# Altium footprint library Connector.PcbLib: 159 footprints (part 10 of 10)
Each footprint in its own frame and in the unit in brackets; x right, y up, seen from the top. Pads: shape width x height; smd on the part's side, far side on the other; paste and mask are expansions set on the pad; w line width, h text height; cw(c..) or ccw(c..) is an arc to the next point about the centre after c.
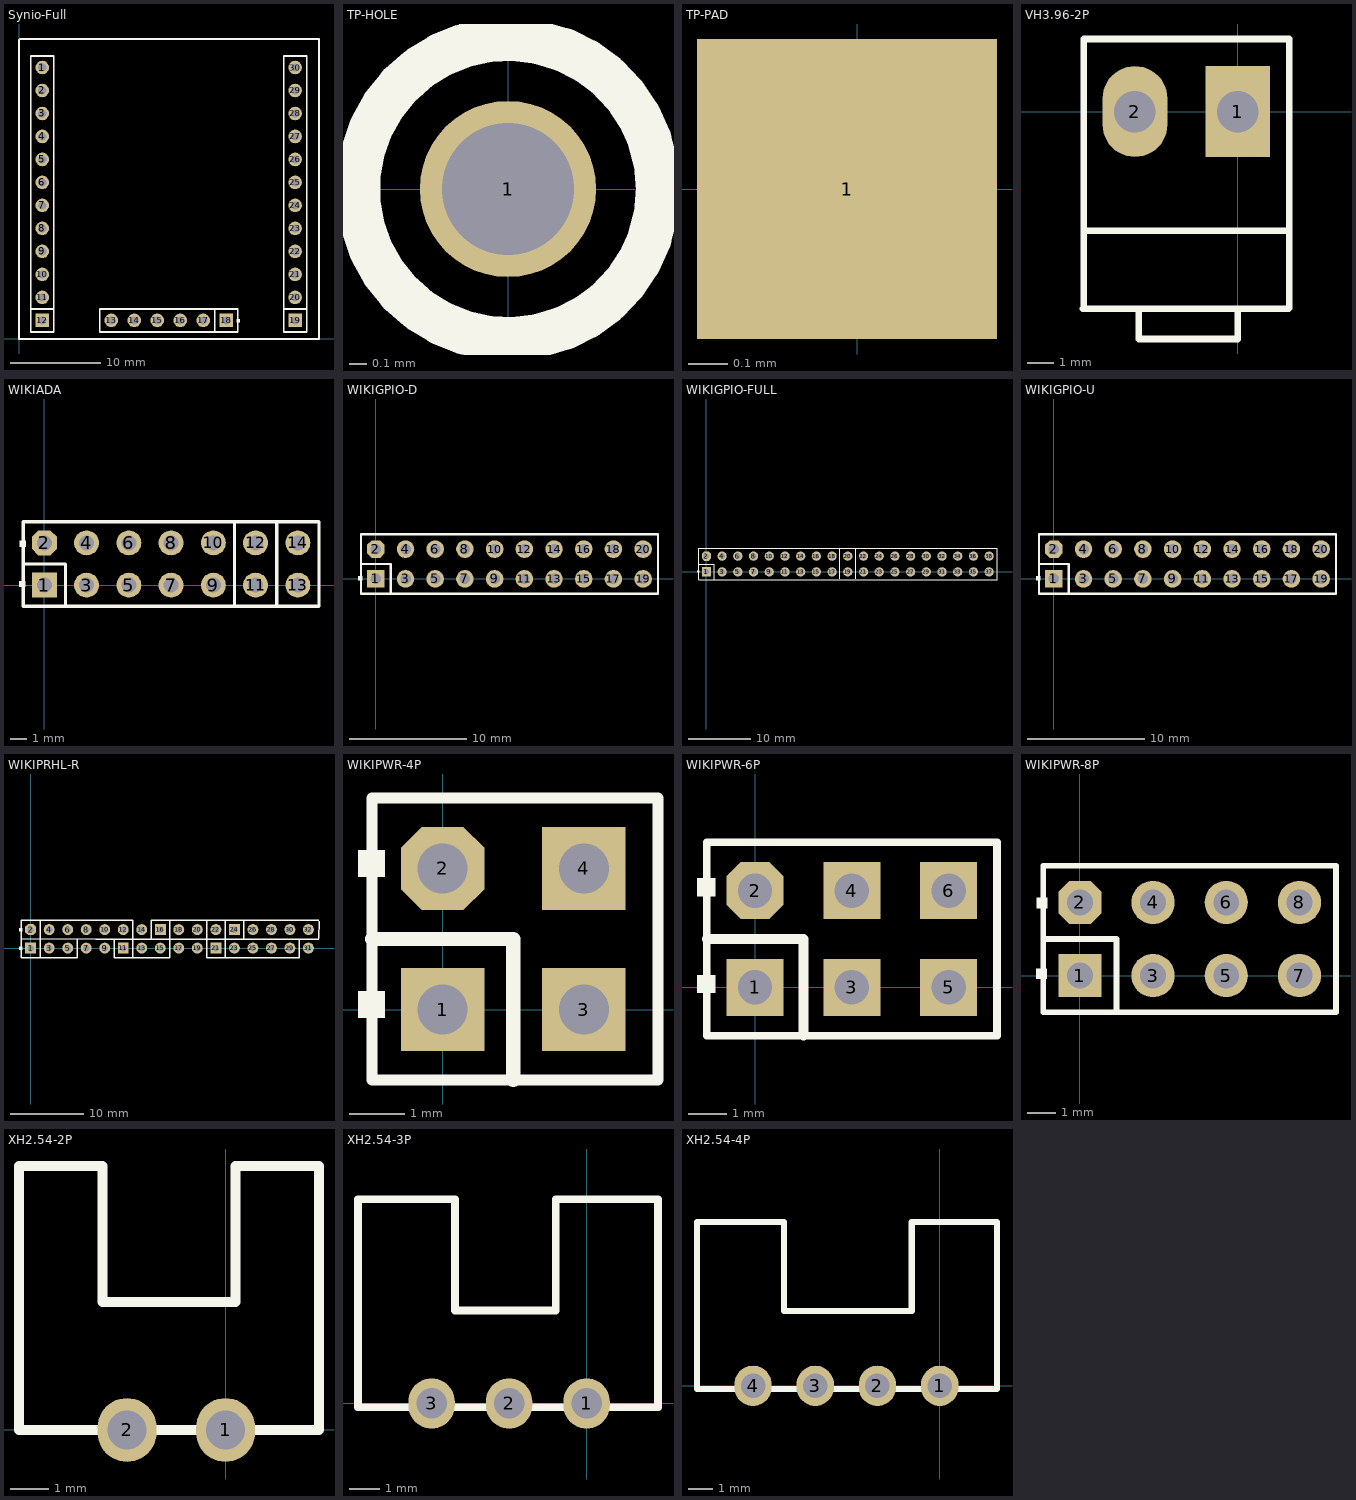
[diagram p9: the footprints below, top view; thin cyan lines are the x and y axes]

## Synio-Full [mm]
pads (30):
  round 1.5 hole 0.9: 1(2.575,29.997) 2(2.575,27.457) 3(2.575,24.917) 4(2.575,22.377) 5(2.575,19.837) 6(2.575,17.297) 7(2.575,14.757) 8(2.575,12.217) 9(2.575,9.677) 10(2.575,7.137) 11(2.575,4.597) 13(10.195,2.057) 14(12.735,2.057) 15(15.275,2.057) 16(17.815,2.057) 17(20.355,2.057) 20(30.515,4.597) 21(30.515,7.137) 22(30.515,9.677) 23(30.515,12.217) 24(30.515,14.757) 25(30.515,17.297) 26(30.515,19.837) 27(30.515,22.377) 28(30.515,24.917) 29(30.515,27.457) 30(30.515,29.997)
  rect 1.5x1.5 hole 0.9: 12(2.575,2.057) 18(22.895,2.057) 19(30.515,2.057)
Top Overlay:
  region: 24.419,2.184 24.038,2.184 24.038,1.803 24.419,1.803
  lines w0.2: 1.305,3.327 3.845,3.327 ; 1.305,31.262 3.845,31.262 ; 1.305,31.267 1.305,2.692 1.305,0.787 3.845,0.787 3.845,31.267 ; 21.625,0.787 21.625,3.327 ; 29.245,3.327 31.785,3.327 ; 29.245,31.262 31.785,31.262 ; 29.245,31.267 29.245,2.692 29.245,0.787 31.785,0.787 31.785,31.267 ; 8.925,0.787 24.165,0.787 24.165,3.327 8.925,3.327 8.925,0.787
  lines w0.254: 0,0 0,33.02 ; 0.127,0 33.147,0 33.147,33.02 ; 0.127,33.147 33.147,33.147
3D body: height 8.51, standoff -3.68, extent 29.071,28.71 31.991,31.25
3D body: height 8.51, standoff -3.68, extent 29.071,26.17 31.991,28.71
3D body: height 8.51, standoff -3.68, extent 29.071,0.77 31.991,3.31
3D body: height 8.51, standoff -3.68, extent 29.071,3.31 31.991,5.85
3D body: height 8.51, standoff -3.68, extent 29.071,10.93 31.991,13.47
3D body: height 8.51, standoff -3.68, extent 29.071,8.39 31.991,10.93
3D body: height 8.51, standoff -3.68, extent 29.071,5.85 31.991,8.39
3D body: height 8.51, standoff -3.68, extent 29.071,13.47 31.991,16.01
3D body: height 8.51, standoff -3.68, extent 29.071,16.01 31.991,18.55
3D body: height 8.51, standoff -3.68, extent 29.071,23.63 31.991,26.17
3D body: height 8.51, standoff -3.68, extent 29.071,21.09 31.991,23.63
3D body: height 8.51, standoff -3.68, extent 29.071,18.55 31.991,21.09
3D body: height 8.51, standoff -3.68, extent 14.052,0.638 16.592,3.558
3D body: height 8.51, standoff -3.68, extent 11.512,0.638 14.052,3.558
3D body: height 8.51, standoff -3.68, extent 8.972,0.638 11.512,3.558
3D body: height 8.51, standoff -3.68, extent 16.592,0.638 19.132,3.558
3D body: height 8.51, standoff -3.68, extent 19.132,0.638 21.672,3.558
3D body: height 8.51, standoff -3.68, extent 21.672,0.638 24.212,3.558
3D body: height 8.51, standoff -3.68, extent 1.131,18.55 4.051,21.09
3D body: height 8.51, standoff -3.68, extent 1.131,21.09 4.051,23.63
3D body: height 8.51, standoff -3.68, extent 1.131,23.63 4.051,26.17
3D body: height 8.51, standoff -3.68, extent 1.131,16.01 4.051,18.55
3D body: height 8.51, standoff -3.68, extent 1.131,13.47 4.051,16.01
3D body: height 8.51, standoff -3.68, extent 1.131,5.85 4.051,8.39
3D body: height 8.51, standoff -3.68, extent 1.131,8.39 4.051,10.93
3D body: height 8.51, standoff -3.68, extent 1.131,10.93 4.051,13.47
3D body: height 8.51, standoff -3.68, extent 1.131,3.31 4.051,5.85
3D body: height 8.51, standoff -3.68, extent 1.131,0.77 4.051,3.31
3D body: height 8.51, standoff -3.68, extent 1.131,26.17 4.051,28.71
3D body: height 8.51, standoff -3.68, extent 1.131,28.71 4.051,31.25

## TP-HOLE [mil] "TEST POINT"
height 511.81
pads (1):
  round 40 hole 30: 1(0,0)
Top Overlay:
  circle w10: c0,0 r34.06

## TP-PAD [mil] "TEST POINT"
pads (1):
  rect 30x30 smd: 1(-1,0)

## VH3.96-2P [mm]
pads (2):
  rect 2.5x3.5 hole 1.6: 1(0,0)
  oval 2.5x3.5 hole 1.6: 2(-3.96,0)
Top Overlay:
  lines w0.2: -5.969,-7.59 -5.94,-7.561
  lines w0.254: -5.969,-7.59 1.958,-7.59 1.98,-7.568 1.98,-4.191 ; -5.94,-7.561 -5.94,-4.318 ; -3.81,-7.62 -3.81,-8.763 0,-8.763 0,-7.62 ; 1.905,-4.589 -5.94,-4.589 -5.94,2.794 1.905,2.794 ; 1.98,-4.589 1.98,2.794

## WIKIADA [mm] "Connector; Header; 7x2 Position"
pads (14):
  rect 1.5x1.5 hole 0.9: 1(0,0)
  oct 1.5x1.5 hole 0.9: 2(0,2.54)
  round 1.5 hole 0.9: 3(2.54,0) 4(2.54,2.54) 5(5.08,0) 6(5.08,2.54) 7(7.62,0) 8(7.62,2.54) 9(10.16,0) 10(10.16,2.54) 11(12.7,0) 12(12.7,2.54) 13(15.24,0) 14(15.24,2.54)
Top Overlay:
  rectangle: -1.524,-0.127 -1.143,0.254
  rectangle: -1.499,2.298 -1.118,2.679
  lines w0.2: -1.27,1.27 1.27,1.27 1.27,-1.27 ; -1.27,-1.27 16.51,-1.27 16.51,3.81 -1.27,3.81 -1.27,-1.27
  lines w0.203: 11.43,-1.27 11.43,3.81 ; 13.97,-1.27 13.97,3.81
3D body: height 8.51, standoff -3.68, extent 13.968,1.149 16.508,4.069
3D body: height 8.51, standoff -3.68, extent 11.428,1.149 13.968,4.069
3D body: height 8.51, standoff -3.68, extent 8.888,1.149 11.428,4.069
3D body: height 8.51, standoff -3.68, extent 1.268,1.149 3.808,4.069
3D body: height 8.51, standoff -3.68, extent 3.808,1.149 6.348,4.069
3D body: height 8.51, standoff -3.68, extent 6.348,1.149 8.888,4.069
3D body: height 8.51, standoff -3.68, extent -1.272,1.149 1.268,4.069
3D body: height 8.51, standoff -3.68, extent 13.968,-1.551 16.508,1.369
3D body: height 8.51, standoff -3.68, extent 11.428,-1.551 13.968,1.369
3D body: height 8.51, standoff -3.68, extent 8.888,-1.551 11.428,1.369
3D body: height 8.51, standoff -3.68, extent 1.268,-1.551 3.808,1.369
3D body: height 8.51, standoff -3.68, extent 3.808,-1.551 6.348,1.369
3D body: height 8.51, standoff -3.68, extent 6.348,-1.551 8.888,1.369
3D body: height 8.51, standoff -3.68, extent -1.272,-1.551 1.268,1.369

## WIKIGPIO-D [mm] "Connector; Header; 9x2 Position"
pads (20):
  rect 1.5x1.5 hole 0.9: 1(0,0)
  oct 1.5x1.5 hole 0.9: 2(0,2.54)
  round 1.5 hole 0.9: 3(2.54,0) 4(2.54,2.54) 5(5.08,0) 6(5.08,2.54) 7(7.62,0) 8(7.62,2.54) 9(10.16,0) 10(10.16,2.54) 11(12.7,0) 12(12.7,2.54) 13(15.24,0) 14(15.24,2.54) 15(17.78,0) 16(17.78,2.54) 17(20.32,0) 18(20.32,2.54) 19(22.86,0) 20(22.86,2.54)
Top Overlay:
  rectangle: -1.524,-0.127 -1.143,0.254
  lines w0.2: -1.27,1.27 1.27,1.27 1.27,-1.27 ; -1.27,-1.27 -1.27,3.81 0.635,3.81 24.13,3.81 24.13,-1.27 0.635,-1.27 -1.27,-1.27
3D body: height 8.51, standoff -3.68, extent -1.212,-1.501 1.328,1.419
3D body: height 8.51, standoff -3.68, extent 1.328,-1.501 3.868,1.419
3D body: height 8.51, standoff -3.68, extent 8.948,-1.501 11.488,1.419
3D body: height 8.51, standoff -3.68, extent 6.408,-1.501 8.948,1.419
3D body: height 8.51, standoff -3.68, extent 3.868,-1.501 6.408,1.419
3D body: height 8.51, standoff -3.68, extent 11.488,-1.501 14.028,1.419
3D body: height 8.51, standoff -3.68, extent 14.028,-1.501 16.568,1.419
3D body: height 8.51, standoff -3.68, extent 21.648,-1.501 24.188,1.419
3D body: height 8.51, standoff -3.68, extent 19.108,-1.501 21.648,1.419
3D body: height 8.51, standoff -3.68, extent 16.568,-1.501 19.108,1.419
3D body: height 8.51, standoff -3.68, extent -1.212,1.199 1.328,4.119
3D body: height 8.51, standoff -3.68, extent 1.328,1.199 3.868,4.119
3D body: height 8.51, standoff -3.68, extent 8.948,1.199 11.488,4.119
3D body: height 8.51, standoff -3.68, extent 6.408,1.199 8.948,4.119
3D body: height 8.51, standoff -3.68, extent 3.868,1.199 6.408,4.119
3D body: height 8.51, standoff -3.68, extent 11.488,1.199 14.028,4.119
3D body: height 8.51, standoff -3.68, extent 14.028,1.199 16.568,4.119
3D body: height 8.51, standoff -3.68, extent 21.648,1.199 24.188,4.119
3D body: height 8.51, standoff -3.68, extent 19.108,1.199 21.648,4.119
3D body: height 8.51, standoff -3.68, extent 16.568,1.199 19.108,4.119

## WIKIGPIO-FULL [mm] "Connector; Header; 19x2 Position"
pads (38):
  rect 1.5x1.5 hole 0.9: 1(0,0)
  oct 1.5x1.5 hole 0.9: 2(0,2.54)
  round 1.5 hole 0.9: 3(2.54,0) 4(2.54,2.54) 5(5.08,0) 6(5.08,2.54) 7(7.62,0) 8(7.62,2.54) 9(10.16,0) 10(10.16,2.54) 11(12.7,0) 12(12.7,2.54) 13(15.24,0) 14(15.24,2.54) 15(17.78,0) 16(17.78,2.54) 17(20.32,0) 18(20.32,2.54) 19(22.86,0) 20(22.86,2.54) 21(25.4,0) 22(25.4,2.54) 23(27.94,0) 24(27.94,2.54) 25(30.48,0) 26(30.48,2.54) 27(33.02,0) 28(33.02,2.54) 29(35.56,0) 30(35.56,2.54) 31(38.1,0) 32(38.1,2.54) 33(40.64,0) 34(40.64,2.54) 35(43.18,0) 36(43.18,2.54) 37(45.72,0) 38(45.72,2.54)
Top Overlay:
  rectangle: -1.524,-0.127 -1.143,0.254
  lines w0.2: -1.27,1.27 1.27,1.27 1.27,-1.27 ; 21.59,-1.143 21.59,3.81 ; 24.13,-1.143 24.13,3.81 ; -1.27,-1.27 46.99,-1.27 46.99,3.81 -1.27,3.81 -1.27,-1.27
3D body: height 8.51, standoff -3.68, extent 16.643,1.224 19.183,4.144
3D body: height 8.51, standoff -3.68, extent 19.183,1.224 21.723,4.144
3D body: height 8.51, standoff -3.68, extent 21.723,1.224 24.263,4.144
3D body: height 8.51, standoff -3.68, extent 14.103,1.224 16.643,4.144
3D body: height 8.51, standoff -3.68, extent 11.563,1.224 14.103,4.144
3D body: height 8.51, standoff -3.68, extent 3.943,1.224 6.483,4.144
3D body: height 8.51, standoff -3.68, extent 6.483,1.224 9.023,4.144
3D body: height 8.51, standoff -3.68, extent 9.023,1.224 11.563,4.144
3D body: height 8.51, standoff -3.68, extent 1.403,1.224 3.943,4.144
3D body: height 8.51, standoff -3.68, extent -1.137,1.224 1.403,4.144
3D body: height 8.51, standoff -3.68, extent 24.263,1.224 26.803,4.144
3D body: height 8.51, standoff -3.68, extent 26.803,1.224 29.343,4.144
3D body: height 8.51, standoff -3.68, extent 16.643,-1.551 19.183,1.369
3D body: height 8.51, standoff -3.68, extent 19.183,-1.551 21.723,1.369
3D body: height 8.51, standoff -3.68, extent 21.723,-1.551 24.263,1.369
3D body: height 8.51, standoff -3.68, extent 14.103,-1.551 16.643,1.369
3D body: height 8.51, standoff -3.68, extent 11.563,-1.551 14.103,1.369
3D body: height 8.51, standoff -3.68, extent 3.943,-1.551 6.483,1.369
3D body: height 8.51, standoff -3.68, extent 6.483,-1.551 9.023,1.369
3D body: height 8.51, standoff -3.68, extent 9.023,-1.551 11.563,1.369
3D body: height 8.51, standoff -3.68, extent 1.403,-1.551 3.943,1.369
3D body: height 8.51, standoff -3.68, extent -1.137,-1.551 1.403,1.369
3D body: height 8.51, standoff -3.68, extent 24.263,-1.551 26.803,1.369
3D body: height 8.51, standoff -3.68, extent 26.803,-1.551 29.343,1.369
3D body: height 8.51, standoff -3.68, extent 44.478,1.299 47.018,4.219
3D body: height 8.51, standoff -3.68, extent 41.938,1.299 44.478,4.219
3D body: height 8.51, standoff -3.68, extent 34.318,1.299 36.858,4.219
3D body: height 8.51, standoff -3.68, extent 36.858,1.299 39.398,4.219
3D body: height 8.51, standoff -3.68, extent 39.398,1.299 41.938,4.219
3D body: height 8.51, standoff -3.68, extent 31.778,1.299 34.318,4.219
3D body: height 8.51, standoff -3.68, extent 29.238,1.299 31.778,4.219
3D body: height 8.51, standoff -3.68, extent 44.528,-1.501 47.068,1.419
3D body: height 8.51, standoff -3.68, extent 41.988,-1.501 44.528,1.419
3D body: height 8.51, standoff -3.68, extent 34.368,-1.501 36.908,1.419
3D body: height 8.51, standoff -3.68, extent 36.908,-1.501 39.448,1.419
3D body: height 8.51, standoff -3.68, extent 39.448,-1.501 41.988,1.419
3D body: height 8.51, standoff -3.68, extent 31.828,-1.501 34.368,1.419
3D body: height 8.51, standoff -3.68, extent 29.288,-1.501 31.828,1.419

## WIKIGPIO-U [mm] "Connector; Header; 9x2 Position"
pads (20):
  rect 1.5x1.5 hole 0.9: 1(0,0)
  oct 1.5x1.5 hole 0.9: 2(0,2.54)
  round 1.5 hole 0.9: 3(2.54,0) 4(2.54,2.54) 5(5.08,0) 6(5.08,2.54) 7(7.62,0) 8(7.62,2.54) 9(10.16,0) 10(10.16,2.54) 11(12.7,0) 12(12.7,2.54) 13(15.24,0) 14(15.24,2.54) 15(17.78,0) 16(17.78,2.54) 17(20.32,0) 18(20.32,2.54) 19(22.86,0) 20(22.86,2.54)
Top Overlay:
  rectangle: -1.524,-0.127 -1.143,0.254
  lines w0.2: -1.27,1.27 1.27,1.27 1.27,-1.27 ; -1.27,-1.27 -1.27,3.81 0.635,3.81 24.13,3.81 24.13,-1.27 0.635,-1.27 -1.27,-1.27
3D body: height 8.51, standoff -3.68, extent -1.237,-1.551 1.303,1.369
3D body: height 8.51, standoff -3.68, extent 1.303,-1.551 3.843,1.369
3D body: height 8.51, standoff -3.68, extent 8.923,-1.551 11.463,1.369
3D body: height 8.51, standoff -3.68, extent 6.383,-1.551 8.923,1.369
3D body: height 8.51, standoff -3.68, extent 3.843,-1.551 6.383,1.369
3D body: height 8.51, standoff -3.68, extent 11.463,-1.551 14.003,1.369
3D body: height 8.51, standoff -3.68, extent 14.003,-1.551 16.543,1.369
3D body: height 8.51, standoff -3.68, extent 21.623,-1.551 24.163,1.369
3D body: height 8.51, standoff -3.68, extent 19.083,-1.551 21.623,1.369
3D body: height 8.51, standoff -3.68, extent 16.543,-1.551 19.083,1.369
3D body: height 8.51, standoff -3.68, extent -1.287,1.099 1.253,4.019
3D body: height 8.51, standoff -3.68, extent 1.253,1.099 3.793,4.019
3D body: height 8.51, standoff -3.68, extent 8.873,1.099 11.413,4.019
3D body: height 8.51, standoff -3.68, extent 6.333,1.099 8.873,4.019
3D body: height 8.51, standoff -3.68, extent 3.793,1.099 6.333,4.019
3D body: height 8.51, standoff -3.68, extent 11.413,1.099 13.953,4.019
3D body: height 8.51, standoff -3.68, extent 13.953,1.099 16.493,4.019
3D body: height 8.51, standoff -3.68, extent 21.573,1.099 24.113,4.019
3D body: height 8.51, standoff -3.68, extent 19.033,1.099 21.573,4.019
3D body: height 8.51, standoff -3.68, extent 16.493,1.099 19.033,4.019

## WIKIPRHL-R [mm] "Connector; Header; 16x2 Position"
pads (32):
  rect 1.5x1.5 hole 0.9: 1(0,0) 11(12.7,0) 16(17.78,2.54) 21(25.4,0) 24(27.94,2.54)
  oct 1.5x1.5 hole 0.9: 2(0,2.54)
  round 1.5 hole 0.9: 3(2.54,0) 4(2.54,2.54) 5(5.08,0) 6(5.08,2.54) 7(7.62,0) 8(7.62,2.54) 9(10.16,0) 10(10.16,2.54) 12(12.7,2.54) 13(15.24,0) 14(15.24,2.54) 15(17.78,0) 17(20.32,0) 18(20.32,2.54) 19(22.86,0) 20(22.86,2.54) 22(25.4,2.54) 23(27.94,0) 25(30.48,0) 26(30.48,2.54) 27(33.02,0) 28(33.02,2.54) 29(35.56,0) 30(35.56,2.54) 31(38.1,0) 32(38.1,2.54)
Top Overlay:
  rectangle: -1.599,-0.252 -1.116,0.23
  rectangle: -1.599,2.288 -1.116,2.77
  lines w0.2: -1.295,1.245 13.995,1.245 ; 1.295,-1.295 1.295,1.245 1.295,3.785 ; 6.375,1.245 6.375,-1.295 -1.321,-1.295 -1.321,1.067 -1.321,3.607 -1.321,3.785 13.995,3.785 13.995,1.245 ; 8.915,1.245 16.535,1.245 ; 11.455,1.245 11.455,-1.295 19.075,-1.295 19.075,1.245 19.075,3.785 ; 13.995,-1.295 13.995,1.245 ; 24.155,3.75 24.155,1.245 ; 26.695,-1.295 26.695,1.245 26.695,3.785 39.522,3.785 ; 26.722,-1.295 26.722,1.035 ; 26.746,3.785 16.535,3.785 16.535,1.245 ; 29.235,1.245 29.235,3.785 ; 36.728,1.245 39.522,1.245 ; 39.55,1.38 39.55,3.71 ; 16.535,1.245 24.155,1.245 ; 24.155,1.245 36.855,1.245 36.855,-1.295 24.155,-1.295 24.155,1.245
3D body: height 8.51, standoff -3.68, extent 29.193,-1.626 31.733,1.294
3D body: height 8.51, standoff -3.68, extent 31.733,-1.626 34.273,1.294
3D body: height 8.51, standoff -3.68, extent 34.273,-1.626 36.813,1.294
3D body: height 8.51, standoff -3.68, extent 26.653,-1.626 29.193,1.294
3D body: height 8.51, standoff -3.68, extent 36.888,1.124 39.428,4.044
3D body: height 8.51, standoff -3.68, extent 29.268,1.124 31.808,4.044
3D body: height 8.51, standoff -3.68, extent 31.808,1.124 34.348,4.044
3D body: height 8.51, standoff -3.68, extent 34.348,1.124 36.888,4.044
3D body: height 8.51, standoff -3.68, extent 26.728,1.124 29.268,4.044
3D body: height 8.51, standoff -3.68, extent 13.943,-1.576 16.483,1.344
3D body: height 8.51, standoff -3.68, extent 16.483,-1.576 19.023,1.344
3D body: height 8.51, standoff -3.68, extent 11.403,-1.576 13.943,1.344
3D body: height 8.51, standoff -3.68, extent 1.243,-1.576 3.783,1.344
3D body: height 8.51, standoff -3.68, extent 3.783,-1.576 6.323,1.344
3D body: height 8.51, standoff -3.68, extent -1.297,-1.576 1.243,1.344
3D body: height 8.51, standoff -3.68, extent 24.128,-1.576 26.668,1.344
3D body: height 8.51, standoff -3.68, extent 16.533,1.124 19.073,4.044
3D body: height 8.51, standoff -3.68, extent 19.073,1.124 21.613,4.044
3D body: height 8.51, standoff -3.68, extent 11.453,1.124 13.993,4.044
3D body: height 8.51, standoff -3.68, extent 8.913,1.124 11.453,4.044
3D body: height 8.51, standoff -3.68, extent 1.293,1.124 3.833,4.044
3D body: height 8.51, standoff -3.68, extent 3.833,1.124 6.373,4.044
3D body: height 8.51, standoff -3.68, extent 6.373,1.124 8.913,4.044
3D body: height 8.51, standoff -3.68, extent -1.247,1.124 1.293,4.044
3D body: height 8.51, standoff -3.68, extent 21.613,1.124 24.153,4.044

## WIKIPWR-4P [mm] "Connector; Header; 2x2 Position"
pads (4):
  rect 1.5x1.5 hole 0.9: 1(0,0) 3(2.54,0) 4(2.54,2.54)
  oct 1.5x1.5 hole 0.9: 2(0,2.54)
Top Overlay:
  rectangle: -1.524,2.388 -1.041,2.87
  rectangle: -1.524,-0.152 -1.041,0.33
  lines w0.2: 1.482,-1.27 3.875,-1.27 ; 3.875,-1.27 3.875,3.81 -1.27,3.81 -1.27,-1.27 3.875,-1.27
  lines w0.254: -1.27,1.27 1.27,1.27 1.27,-1.27
3D body: height 8.51, standoff -3.68, extent -1.302,1.199 1.238,4.119
3D body: height 8.51, standoff -3.68, extent -1.302,-1.601 1.238,1.319
3D body: height 8.51, standoff -3.68, extent 1.198,1.199 3.738,4.119
3D body: height 8.51, standoff -3.68, extent 1.198,-1.601 3.738,1.319

## WIKIPWR-6P [mm] "Connector; Header; 3x2 Position"
pads (6):
  rect 1.5x1.5 hole 0.9: 1(0,0) 3(2.54,0) 4(2.54,2.54) 5(5.08,0) 6(5.08,2.54)
  oct 1.5x1.5 hole 0.9: 2(0,2.54)
Top Overlay:
  rectangle: -1.524,-0.152 -1.041,0.33
  rectangle: -1.524,2.388 -1.041,2.87
  lines w0.2: 1.482,-1.27 6.35,-1.27 ; 6.35,-1.27 -1.27,-1.27 -1.27,3.81 6.35,3.81 6.35,-1.27
  lines w0.254: -1.27,1.27 1.27,1.27 1.27,-1.27
3D body: height 8.51, standoff -3.68, extent -1.207,1.099 1.333,4.019
3D body: height 8.51, standoff -3.68, extent 1.333,1.099 3.873,4.019
3D body: height 8.51, standoff -3.68, extent 3.873,1.099 6.413,4.019
3D body: height 8.51, standoff -3.68, extent 3.898,-1.651 6.438,1.269
3D body: height 8.51, standoff -3.68, extent 1.358,-1.651 3.898,1.269
3D body: height 8.51, standoff -3.68, extent -1.182,-1.651 1.358,1.269

## WIKIPWR-8P [mm] "Connector; Header; 4x2 Position"
pads (8):
  rect 1.5x1.5 hole 0.9: 1(0,0)
  oct 1.5x1.5 hole 0.9: 2(0,2.54)
  round 1.5 hole 0.9: 3(2.54,0) 4(2.54,2.54) 5(5.08,0) 6(5.08,2.54) 7(7.62,0) 8(7.62,2.54)
Top Overlay:
  rectangle: -1.524,-0.127 -1.143,0.254
  rectangle: -1.499,2.323 -1.118,2.704
  lines w0.2: -1.27,1.27 1.27,1.27 1.27,-1.27 ; -1.27,-1.27 8.89,-1.27 8.89,3.81 -1.27,3.81 -1.27,-1.27
3D body: height 8.51, standoff -3.68, extent 3.798,-1.651 6.338,1.269
3D body: height 8.51, standoff -3.68, extent 1.258,-1.651 3.798,1.269
3D body: height 8.51, standoff -3.68, extent -1.282,-1.651 1.258,1.269
3D body: height 8.51, standoff -3.68, extent 3.798,1.149 6.338,4.069
3D body: height 8.51, standoff -3.68, extent 1.258,1.149 3.798,4.069
3D body: height 8.51, standoff -3.68, extent -1.282,1.149 1.258,4.069
3D body: height 8.51, standoff -3.68, extent 6.273,1.149 8.813,4.069
3D body: height 8.51, standoff -3.68, extent 6.273,-1.651 8.813,1.269

## XH2.54-2P [mil]
pads (2):
  oval 60x65 hole 39.37: 1(0,0) 2(-100.1,0)
Top Overlay:
  lines w10: -210,0 -210,268.3 -125,268.3 -125,130 10,130 10,268.3 61.2,268.3 95,268.3 95,0 -210,0

## XH2.54-3P [mil]
pads (3):
  oval 60x65 hole 39.37: 1(0,0) 2(-100.1,0) 3(-200,0)
Top Overlay:
  lines w10: -295,-5 92,-5 92,263.3 61.2,263.3 -40,263.3 -40,120 -170,120 -170,263.3 -295,263.3 -295,-5

## XH2.54-4P [mil]
pads (4):
  oval 60x65 hole 39.37: 1(0,0) 2(-100.1,0) 3(-200,0) 4(-300,0)
Top Overlay:
  lines w10: -390,-5 92,-5 92,263.3 61.2,263.3 -45,263.3 -45,120 -250,120 -250,263.3 -390,263.3 -390,-5